# EAGLE library part MCP2122 (library wicked-device)
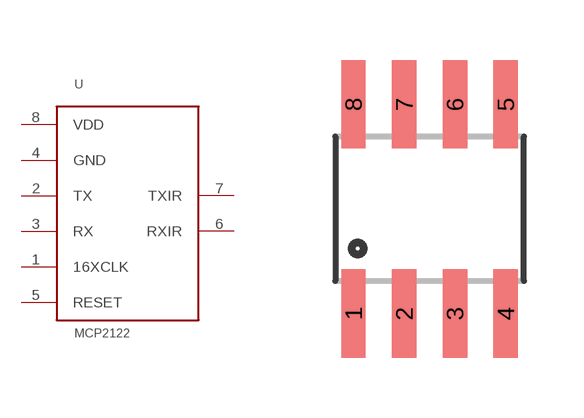
[diagram p12: symbol with the pads of MCP_8SOIC; footprint MCP_8SOIC]

Designator prefix -

## MCP2122  [MCP_8SOIC]
1  16XCLK  in
2  TX  in
3  RX  out
4  GND  sup
5  RESET  in
6  RXIR  in
7  TXIR  out
8  VDD  sup

## Footprint MCP_8SOIC (pad centres in mm)
smd 0.61 x 2.21: 1 -1.905,-2.616; 2 -0.635,-2.616; 3 0.635,-2.616; 4 1.905,-2.616; 5 1.905,2.616; 6 0.635,2.616; 7 -0.635,2.616; 8 -1.905,2.616